# Altium schematic symbol library Passives.SchLib: 2 symbols
Pins are listed as number, name and electrical type; pins without a type are passive.

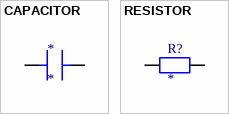
[diagram p0: symbols CAPACITOR to RESISTOR]

## CAPACITOR
designator *
pins: 1, 2

## RESISTOR
designator R?
pins: 1, 2